# Altium schematic symbol library SCH Library.SCHLIB: 489 symbols (part 2 of 2)
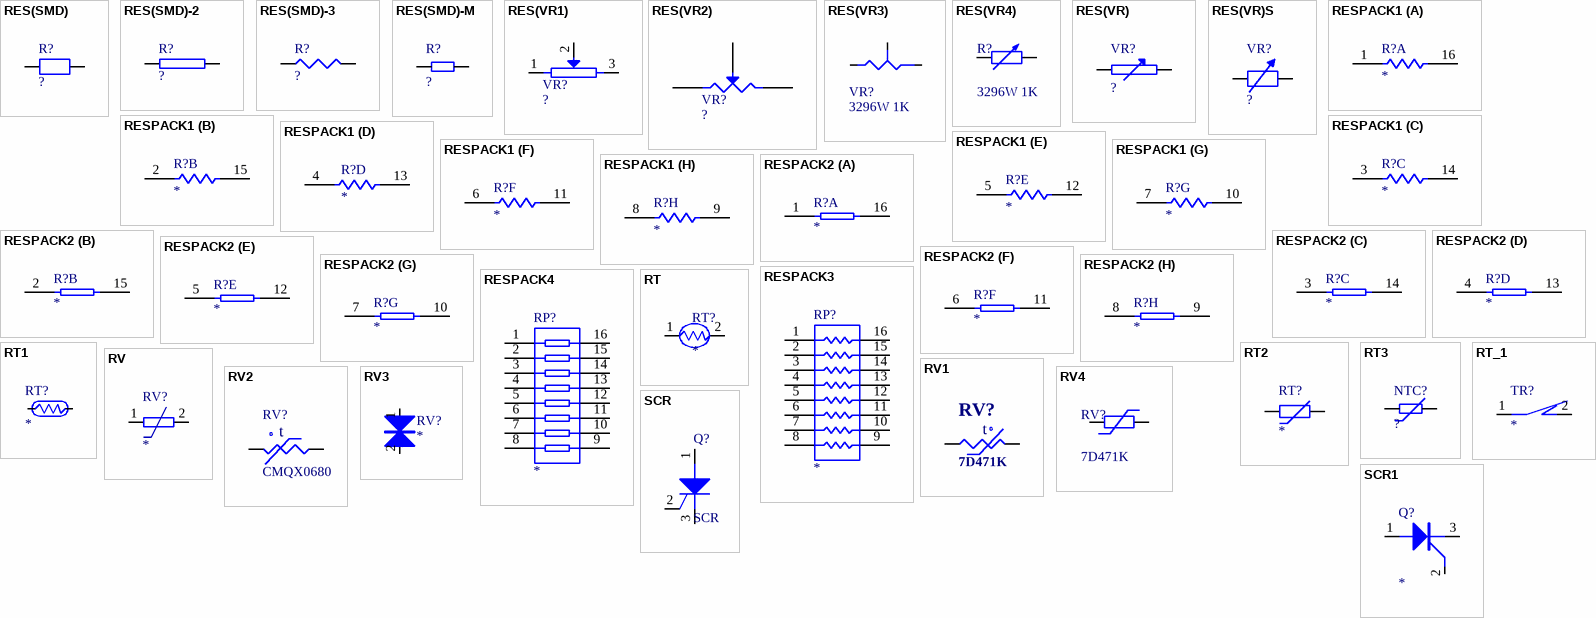
[diagram p18: symbols RES(SMD) to SCR1]

## RES(VR4)
designator R?, comment 3296W 1K
可调电阻; Set Position: 0.5; Published: 8-Jun-2000; LatestRevisionDate: 17-Jul-2002; LatestRevisionNote: Re-released for DXP Platform.; PackageReference: AXIAL-0.6; Publisher: Altium Limited
footprint AXIAL-0.6 (Variable Resistor; 2 Leads)
simulation model VRES (Variable Resistor)
signal-integrity model Res Adj
pins: 1, 2

## RES(VR)
designator VR?, comment ?
可调电阻
footprint R-VR3362
footprint R-VR3296
pins: 1, 2

## RES(VR)S
designator VR?, comment ?
可调电阻
footprint R-VR3362
footprint R-VR3296
pins: 1, 2

## RESPACK1
designator R?
电阻排
footprint DIP-16
part A pins: 1, 16
part B pins: 2, 15
part C pins: 3, 14
part D pins: 4, 13
part E pins: 5, 12
part F pins: 6, 11
part G pins: 7, 10
part H pins: 8, 9

## RESPACK2
designator R?
电阻排
footprint DIP-16
part A pins: 1, 16
part B pins: 2, 15
part C pins: 3, 14
part D pins: 4, 13
part E pins: 5, 12
part F pins: 6, 11
part G pins: 7, 10
part H pins: 8, 9

## RESPACK3
designator RP?
电阻排
footprint DIP-16
pins: 1, 2, 3, 4, 5, 6, 7, 8, 9, 10, 11, 12, 13, 14, 15, 16

## RESPACK4
designator RP?
电阻排
footprint DIP-16
pins: 1, 2, 3, 4, 5, 6, 7, 8, 9, 10, 11, 12, 13, 14, 15, 16

## RT
designator RT?
热敏电阻
pins: 1, 2

## RT1
designator RT?
热敏电阻
footprint RT-P5 (功率型NTC)
footprint RT-P7.5
footprint RT-P10
pins: 1, 2

## RT2
designator RT?
热敏电阻
footprint R-NTC9-5.0
footprint R-NTC11-5.0
footprint R-NTC13-7.5
footprint R-NTC15-7.5
footprint R-NTC20-10
pins: 1, 2

## RT3
designator NTC?, comment ?
贴片热敏电阻
footprint R-0805
footprint R-1206
footprint R-1210
footprint R-2010
footprint R-2512
footprint R-0402
footprint R-0603
pins: 1, 2

## RT_1
designator TR?
温控
pins: 1, 2

## RV
designator RV?
压敏电阻
pins: 1, 2

## RV1
designator RV?, comment 7D471K
压敏电阻
footprint R-RV5D
footprint R-RV7D
footprint R-RV7D-OS
footprint R-RV10D
pins: 1, 2
text: t

## RV2
designator RV?, comment CMQX0680
压敏电阻
footprint R-RV5D
footprint R-RV7D
footprint R-RV7D-OS
footprint R-RV10D
footprint R-RVFL-3C (CMQX0680-3C)
pins: 1, 2
text: t

## RV3
designator RV?
压敏电阻
pins: 1, 2

## RV4
designator RV?, comment 7D471K
压敏电阻; Published: 24-Mar-1999; LatestRevisionDate: 04-Mar-2005; LatestRevisionNote: PCB Footprint replaced.; PackageReference: 6-0805; Publisher: Altium Limited; Price: 0.1; Value: 7D471K
footprint MOV-P5.0 (压敏电阻  7D471K P=5MM)
footprint MOV-P5-W
footprint MOV-P7.5 (压敏电阻  7D471K P=7.5MM)
footprint MOV-P10 (压敏电阻  7D471K P=7.5MM)
pins: 1, 2

## SCR
designator Q?
可控硅; Published: 8-Jun-2000; LatestRevisionDate: 17-Jul-2002; LatestRevisionNote: Re-released for DXP Platform.; PackageReference: TO-220-AB; Publisher: Altium Limited; Code_JEDEC: TO-220-AB
simulation model SCR (Spice Subcircuit)
footprint TO-92A (TO, Flat Index; 3 In-Line, Axial Leads; Body Dia. 4.5mm; Leads 0.51 x 0.48 mm (max))
footprint TO-92 (TO, Flat Index; 3 In-Line, Axial Leads; Body Dia. 4.5mm; Leads 0.51 x 0.48 mm (max))
pins: 1 A, 2 G, 3 K

## SCR1
designator Q?
可控硅
footprint Q-TO-92-BT169
pins: 1 A, 2 G, 3 K

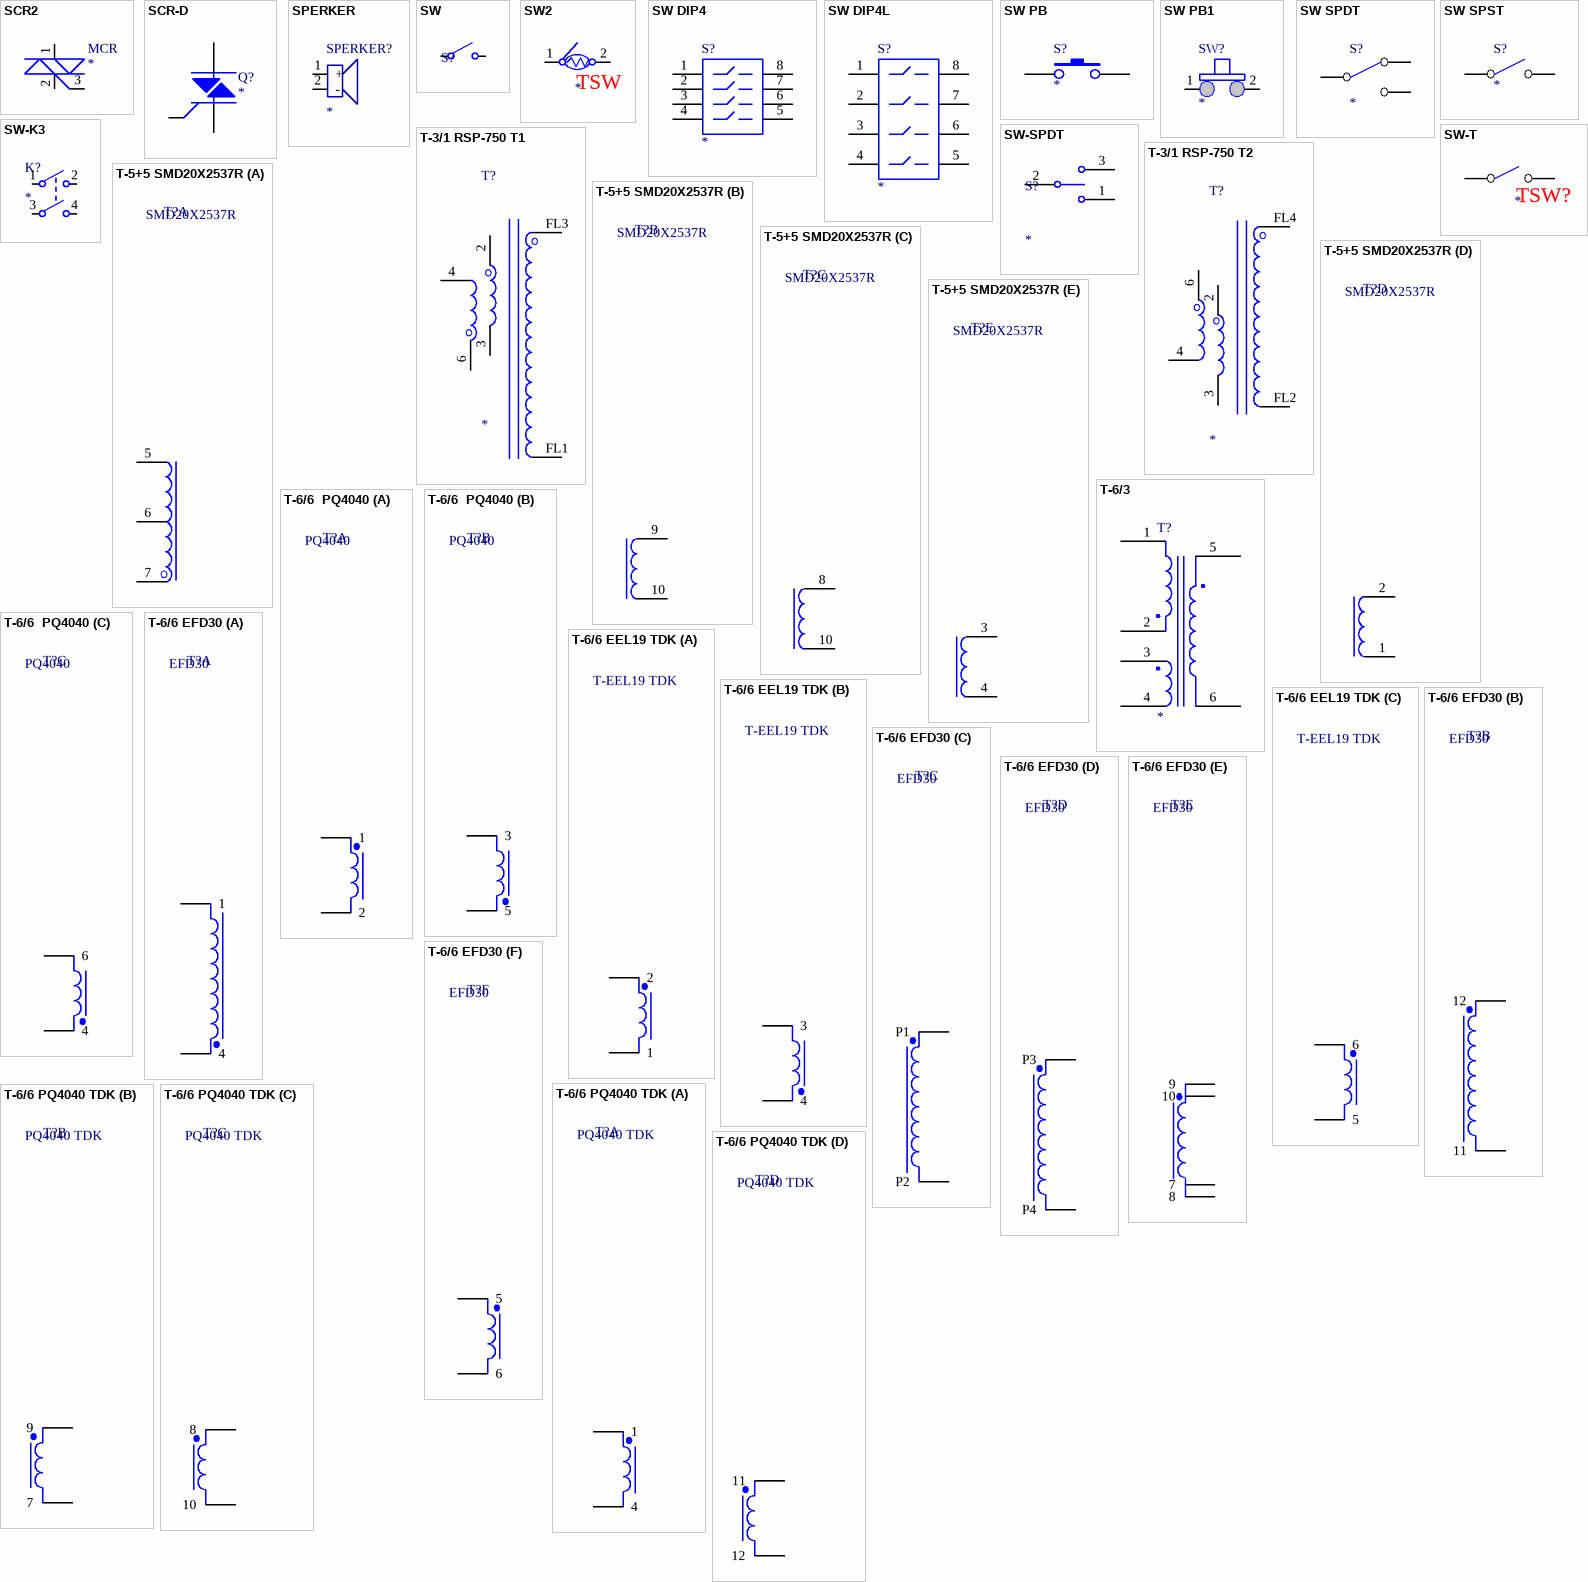
[diagram p11: symbols SCR2 to T-6/6 PQ4040 TDK]

## SCR2
designator MCR
可控硅
pins: 1, 2, 3

## SCR-D
designator Q?
双向可控硅; 型号: BTA16，BT136
footprint Q-TO-220FM
footprint Q-SOT-223/P2.3
pins: 1, 2, 3

## SPERKER
designator SPERKER?
扬声器
pins: 1 +, 2 -

## SW
designator S?  (value not drawn)
开关; Published: 24-Mar-1999; LatestRevisionDate: 17-Dec-2003; LatestRevisionNote: Schematic revised, PCB Footprint replaced.; DatasheetDocument: 05-Dec-2000; PackageReference: TL36WW15050; Publisher: Altium Limited; ComponentLink1Description: Manufacturer Link; ComponentLink1URL: http://www.apem.com
pins: 1, 2

## SW2
designator TSW
温控开关
footprint EC2.54-2
footprint ec2.54-2
pins: 1, 2

## SW DIP4
designator S?
4档开关
footprint DIP-8
pins: 1, 2, 3, 4, 5, 6, 7, 8

## SW DIP4L
designator S?
4档开关长
footprint DIP-8
pins: 1, 2, 3, 4, 5, 6, 7, 8

## SW PB
designator S?
点动
pins: 1, 2

## SW PB1
designator SW?
点动
pins: 1, 2

## SW SPDT
designator S?
单刀双掷
pins: 1 COMMON, 2 NC, 3 NO

## SW SPST
designator S?
单刀单掷
pins: 1 COMMON, 2 NO

## SW-K3
designator K?
双刀开关
pins: 1, 2, 3 1, 4 2

## SW-SPDT
designator S?
拨动开关; Published: 24-Mar-1999; LatestRevisionDate: 17-Dec-2003; LatestRevisionNote: Schematic revised, PCB Footprint replaced.; DatasheetDocument: 05-Dec-2000; PackageReference: TL36WW15050; Publisher: Altium Limited; ComponentLink1Description: Manufacturer Link; ComponentLink1URL: http://www.apem.com
footprint TL36WW15050 (SPDT Subminiature Toggle Switch, Right Angle Mounting, Vertical Actuation)
pins: 1, 2, 3

## SW-T
designator TSW?
温控开关
footprint Q-TO-220AB-M (两位)
footprint EC2.54-2.1
footprint ec2.54-2
pins: 1, 2

## T-3/1 RSP-750 T1
designator T?
正激变压器
pins: 2, 3, 4, 6, FL1, FL3

## T-3/1 RSP-750 T2
designator T?
正激变压器
pins: 2, 3, 4, 6, FL2, FL4

## T-5+5 SMD20X2537R
designator T?, comment SMD20X2537R
LLC
footprint T-T3 (高频变压器)
part A pins: 5, 6, 7
part B pins: 9, 10
part C pins: 8, 10
part D pins: 1, 2
part E pins: 3, 4
2 alternate drawings of the same symbol

## T-6/3
designator T?
反激变压器
pins: 1, 2, 3, 4, 5, 6

## T-6/6  PQ4040
designator T?, comment PQ4040
正激
footprint T-PQ3535-CUS600M-LLC TDK
part A pins: 1, 2
part B pins: 3, 5
part C pins: 4, 6
2 alternate drawings of the same symbol

## T-6/6 EEL19 TDK
designator T?, comment T-EEL19 TDK
正激
footprint T-EEL19-CUS600M TDK
part A pins: 1, 2
part B pins: 3, 4
part C pins: 5, 6
2 alternate drawings of the same symbol

## T-6/6 EFD30
designator T?, comment EFD30
LLC
part A pins: 1, 4
part B pins: 11, 12
part C pins: P1, P2
part D pins: P3, P4
part E pins: 7, 8, 9, 10
part F pins: 5, 6
2 alternate drawings of the same symbol

## T-6/6 PQ4040 TDK
designator T?, comment PQ4040 TDK
LLC
footprint T-PQ3535-CUS600M-LLC TDK
part A pins: 1, 4
part B pins: 7, 9
part C pins: 8, 10
part D pins: 11, 12
2 alternate drawings of the same symbol

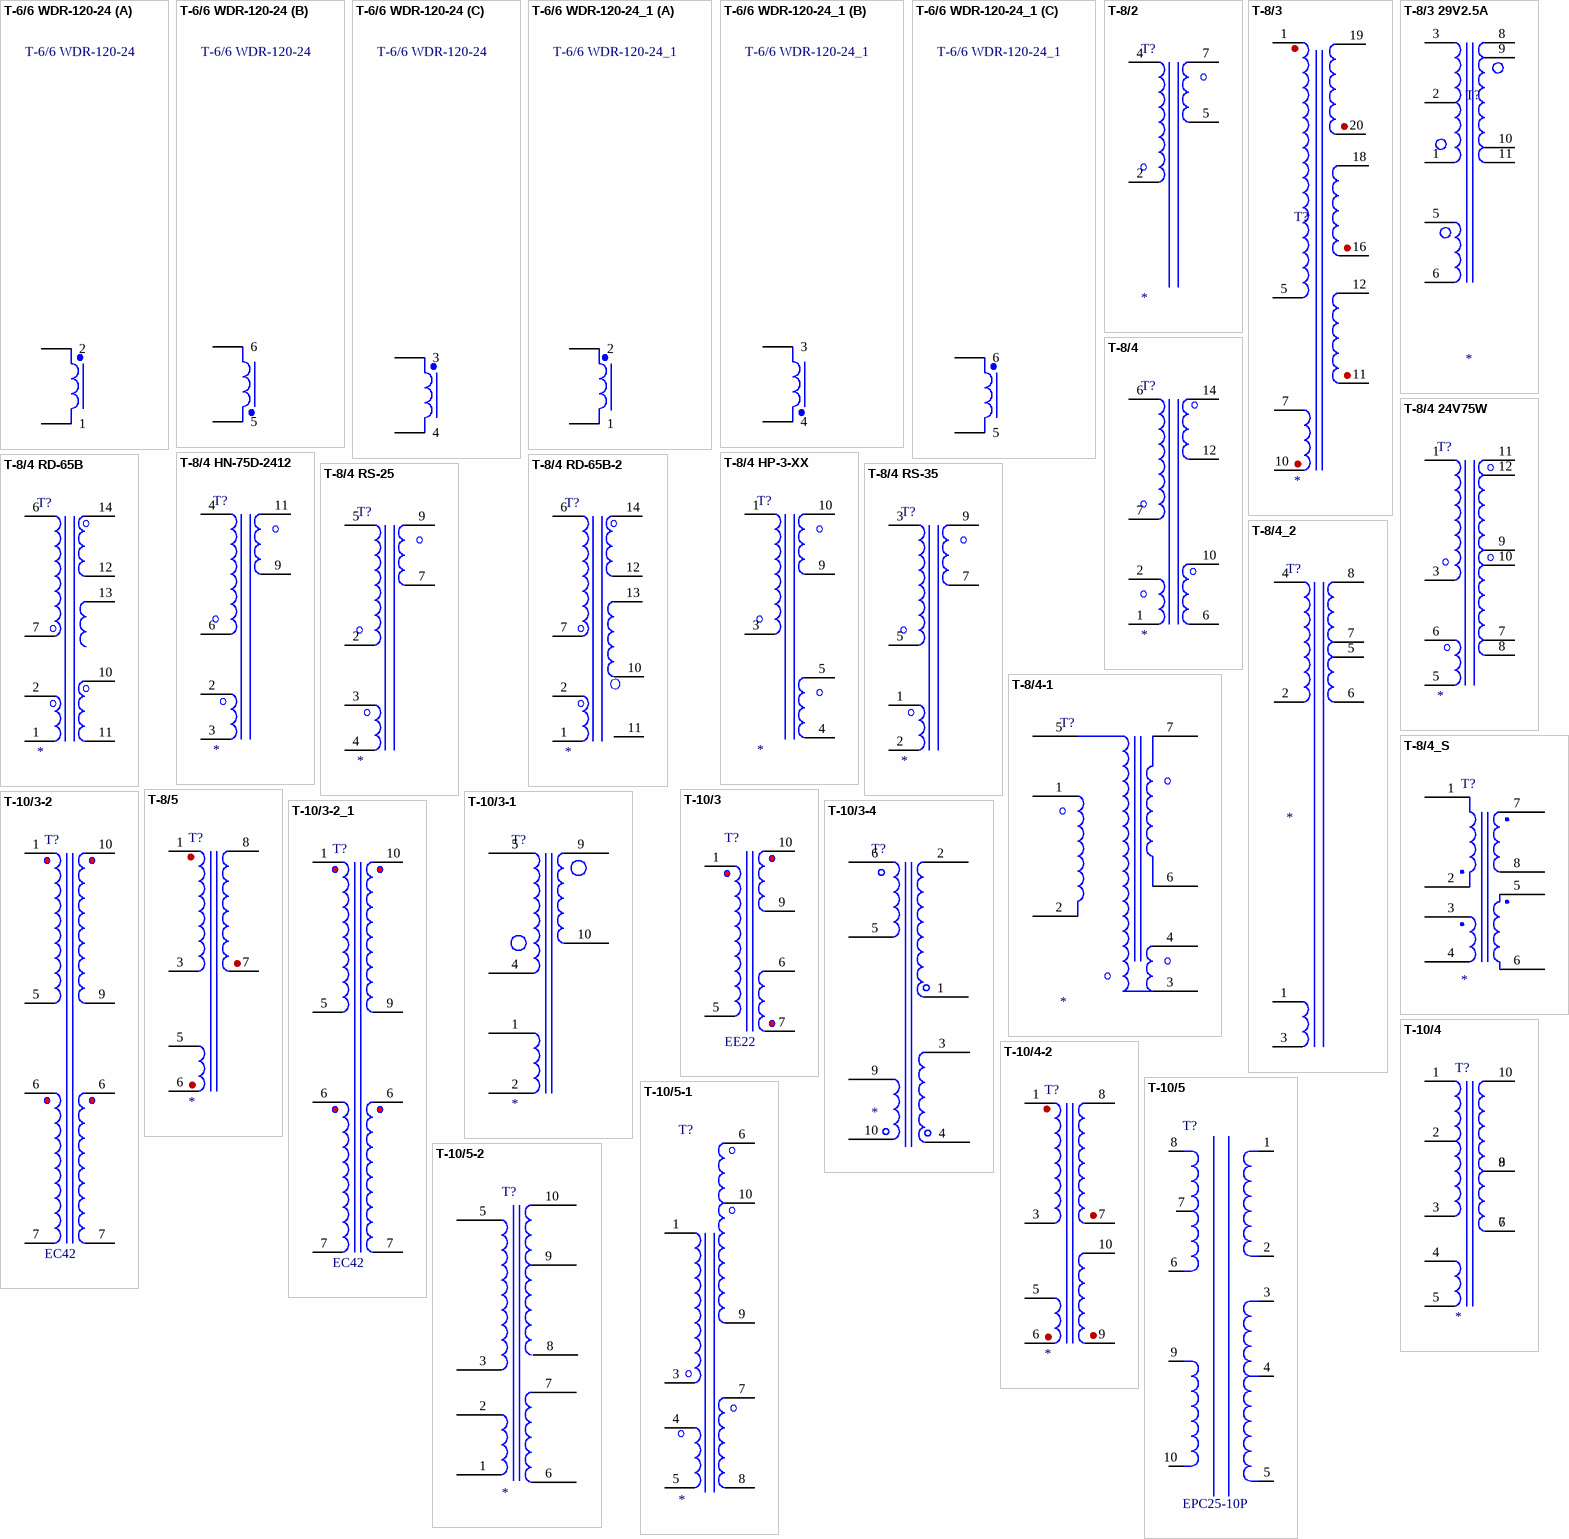
[diagram p12: symbols T-6/6 WDR-120-24 to T-10/5-2]

## T-6/6 WDR-120-24
designator T?
正激
part A pins: 1, 2
part B pins: 5, 6
part C pins: 3, 4
2 alternate drawings of the same symbol

## T-6/6 WDR-120-24_1
designator T?
正激
part A pins: 1, 2
part B pins: 3, 4
part C pins: 5, 6
2 alternate drawings of the same symbol

## T-8/2
designator T?
反激变压器
pins: 2, 4, 5, 7

## T-8/3
designator T?
反激变压器
pins: 1, 5, 7, 10, 11, 12, 16, 18, 19, 20

## T-8/3 29V2.5A
designator T?
反激变压器
pins: 1, 2, 3, 5, 6, 8, 9, 10, 11

## T-8/4
designator T?
反激变压器
pins: 1, 2, 6, 6, 7, 10, 12, 14

## T-8/4 24V75W
designator T?
反激变压器
pins: 1, 3, 5, 6, 7, 8, 9, 10, 11, 12

## T-8/4 HN-75D-2412
designator T?
反激变压器
pins: 2, 3, 4, 6, 9, 11

## T-8/4 HP-3-XX
designator T?
反激变压器
pins: 1, 3, 4, 5, 9, 10

## T-8/4 RD-65B
designator T?
反激变压器
pins: 1, 2, 6, 7, 10, 11, 12, 13, 14

## T-8/4 RD-65B-2
designator T?
反激变压器
pins: 1, 2, 6, 7, 10, 11, 12, 13, 14

## T-8/4 RS-25
designator T?
反激变压器
pins: 2, 3, 4, 5, 7, 9

## T-8/4 RS-35
designator T?
反激变压器
pins: 1, 2, 3, 5, 7, 9

## T-8/4-1
designator T?
正激
pins: 1, 2, 3, 4, 5, 6, 7

## T-8/4_2
designator T?
反激变压器
pins: 1, 2, 3, 4, 5, 6, 7, 8

## T-8/4_S
designator T?
反激变压器
footprint T-EI22
footprint T-EI19
pins: 1, 2, 3, 4, 5, 6, 7, 8

## T-8/5
designator T?
反激变压器
pins: 1, 3, 5, 6, 7, 8

## T-10/3
designator T?, comment EE22
驱动
footprint T-EI22
pins: 1, 5, 6, 7, 9, 10

## T-10/3-1
designator T?
反激变压器
pins: 1, 2, 4, 5, 9, 10

## T-10/3-2
designator T?, comment EC42
双管正激
footprint T-EC40/35-12/22.5/25.4
pins: 1, 5, 6, 6, 7, 7, 9, 10

## T-10/3-2_1
designator T?, comment EC42
双管正激
footprint T-EC40/35-12/22.5/25.4
pins: 1, 5, 6, 6, 7, 7, 9, 10

## T-10/3-4
designator T?
反激变压器
pins: 1, 2, 3, 4, 5, 6, 9, 10

## T-10/4
designator T?
反激变压器
pins: 1, 2, 3, 4, 5, 6, 7, 8, 9, 10

## T-10/4-2
designator T?
反激变压器
footprint T-EC28/34W-12/30
pins: 1, 3, 5, 6, 7, 8, 9, 10

## T-10/5
designator T?, comment EPC25-10P
反激变压器
pins: 1, 2, 3, 4, 5, 6, 7, 8, 9, 10
2 alternate drawings of the same symbol

## T-10/5-1
designator T?
反激变压器
pins: 1, 3, 4, 5, 6, 7, 8, 9, 10

## T-10/5-2
designator T?
反激变压器
pins: 1, 2, 3, 5, 6, 7, 8, 9, 10

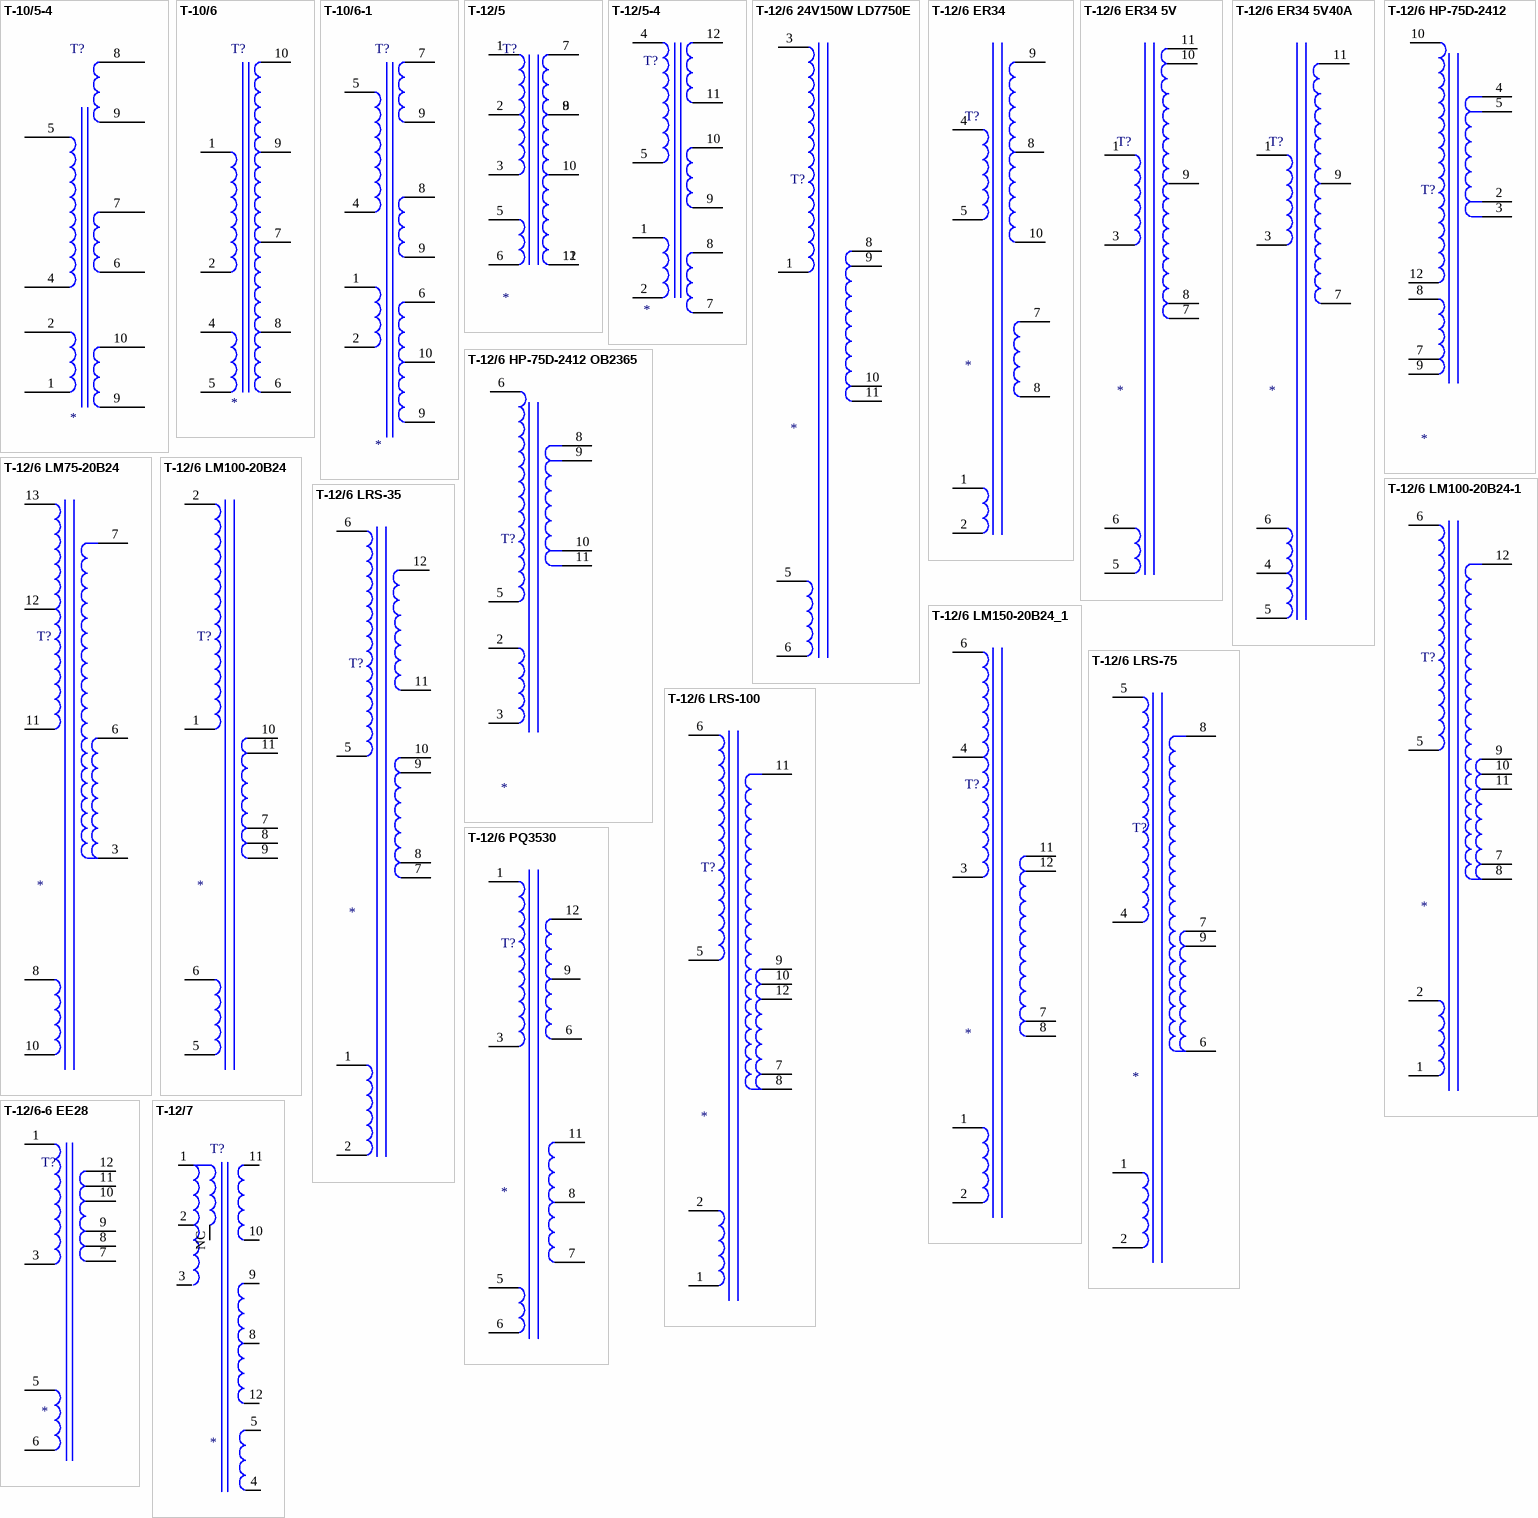
[diagram p13: symbols T-10/5-4 to T-12/7]

## T-10/5-4
designator T?
反激变压器
pins: 1, 2, 4, 5, 6, 7, 8, 9, 9, 10

## T-10/6
designator T?
反激变压器
pins: 1, 2, 4, 5, 6, 7, 8, 9, 10

## T-10/6-1
designator T?
反激变压器
pins: 1, 2, 4, 5, 6, 7, 8, 9, 9, 9, 10

## T-12/5
designator T?
反激变压器
pins: 1, 2, 3, 5, 6, 7, 8, 9, 10, 11, 12

## T-12/5-4
designator T?
反激变压器
pins: 1, 2, 4, 5, 7, 8, 9, 10, 11, 12

## T-12/6 24V150W LD7750E
designator T?
24V150W LD7750E
pins: 1, 3, 5, 6, 8, 9, 10, 11

## T-12/6 ER34
designator T?
LLC
pins: 1, 2, 4, 5, 7, 8, 8, 9, 10

## T-12/6 ER34 5V
designator T?
LLC
pins: 1, 3, 5, 6 5, 7, 8, 9, 10, 11

## T-12/6 ER34 5V40A
designator T?
LLC
pins: 1, 3, 4, 5, 6 5, 7, 9, 11

## T-12/6 HP-75D-2412
designator T?
HP-75D-2412
pins: 2, 3, 4, 5, 7, 8, 9, 10, 12

## T-12/6 HP-75D-2412 OB2365
designator T?
HP-75D-2412
pins: 2, 3, 5, 6, 8, 9, 10, 11

## T-12/6 LM75-20B24
designator T?
LM75-20B24
pins: 3, 6, 7, 8, 10, 11, 12, 13

## T-12/6 LM100-20B24
designator T?
LM100-20B24
pins: 1, 2, 5, 6, 7, 8, 9, 10, 11

## T-12/6 LM100-20B24-1
designator T?
LM100-20B24-1
pins: 1, 2, 5, 6, 7, 8, 9, 10, 11, 12

## T-12/6 LM150-20B24_1
designator T?
LM150-20B24
pins: 1, 2, 3, 4, 6, 7, 8, 11, 12

## T-12/6 LRS-35
designator T?
LRS-35
pins: 1, 2, 5, 6, 7, 8, 9, 10, 11, 12

## T-12/6 LRS-75
designator T?
LRS-75
footprint MW LRS-75
pins: 1, 2, 4, 5, 6, 7, 8, 9

## T-12/6 LRS-100
designator T?
LRS-100
footprint MW LRS-100
pins: 1, 2, 5, 6, 7, 8, 9, 10, 11, 12

## T-12/6 PQ3530
designator T?
LLC
pins: 1, 3, 5, 6, 6, 7, 8, 9, 11, 12

## T-12/6-6 EE28
designator T?
反激
pins: 1, 3, 5, 6, 7, 8, 9, 10, 11, 12

## T-12/7
designator T?
反激变压器
pins: 1, 2, 3, 4, 5, 8, 9, 10, 11, 12, NC

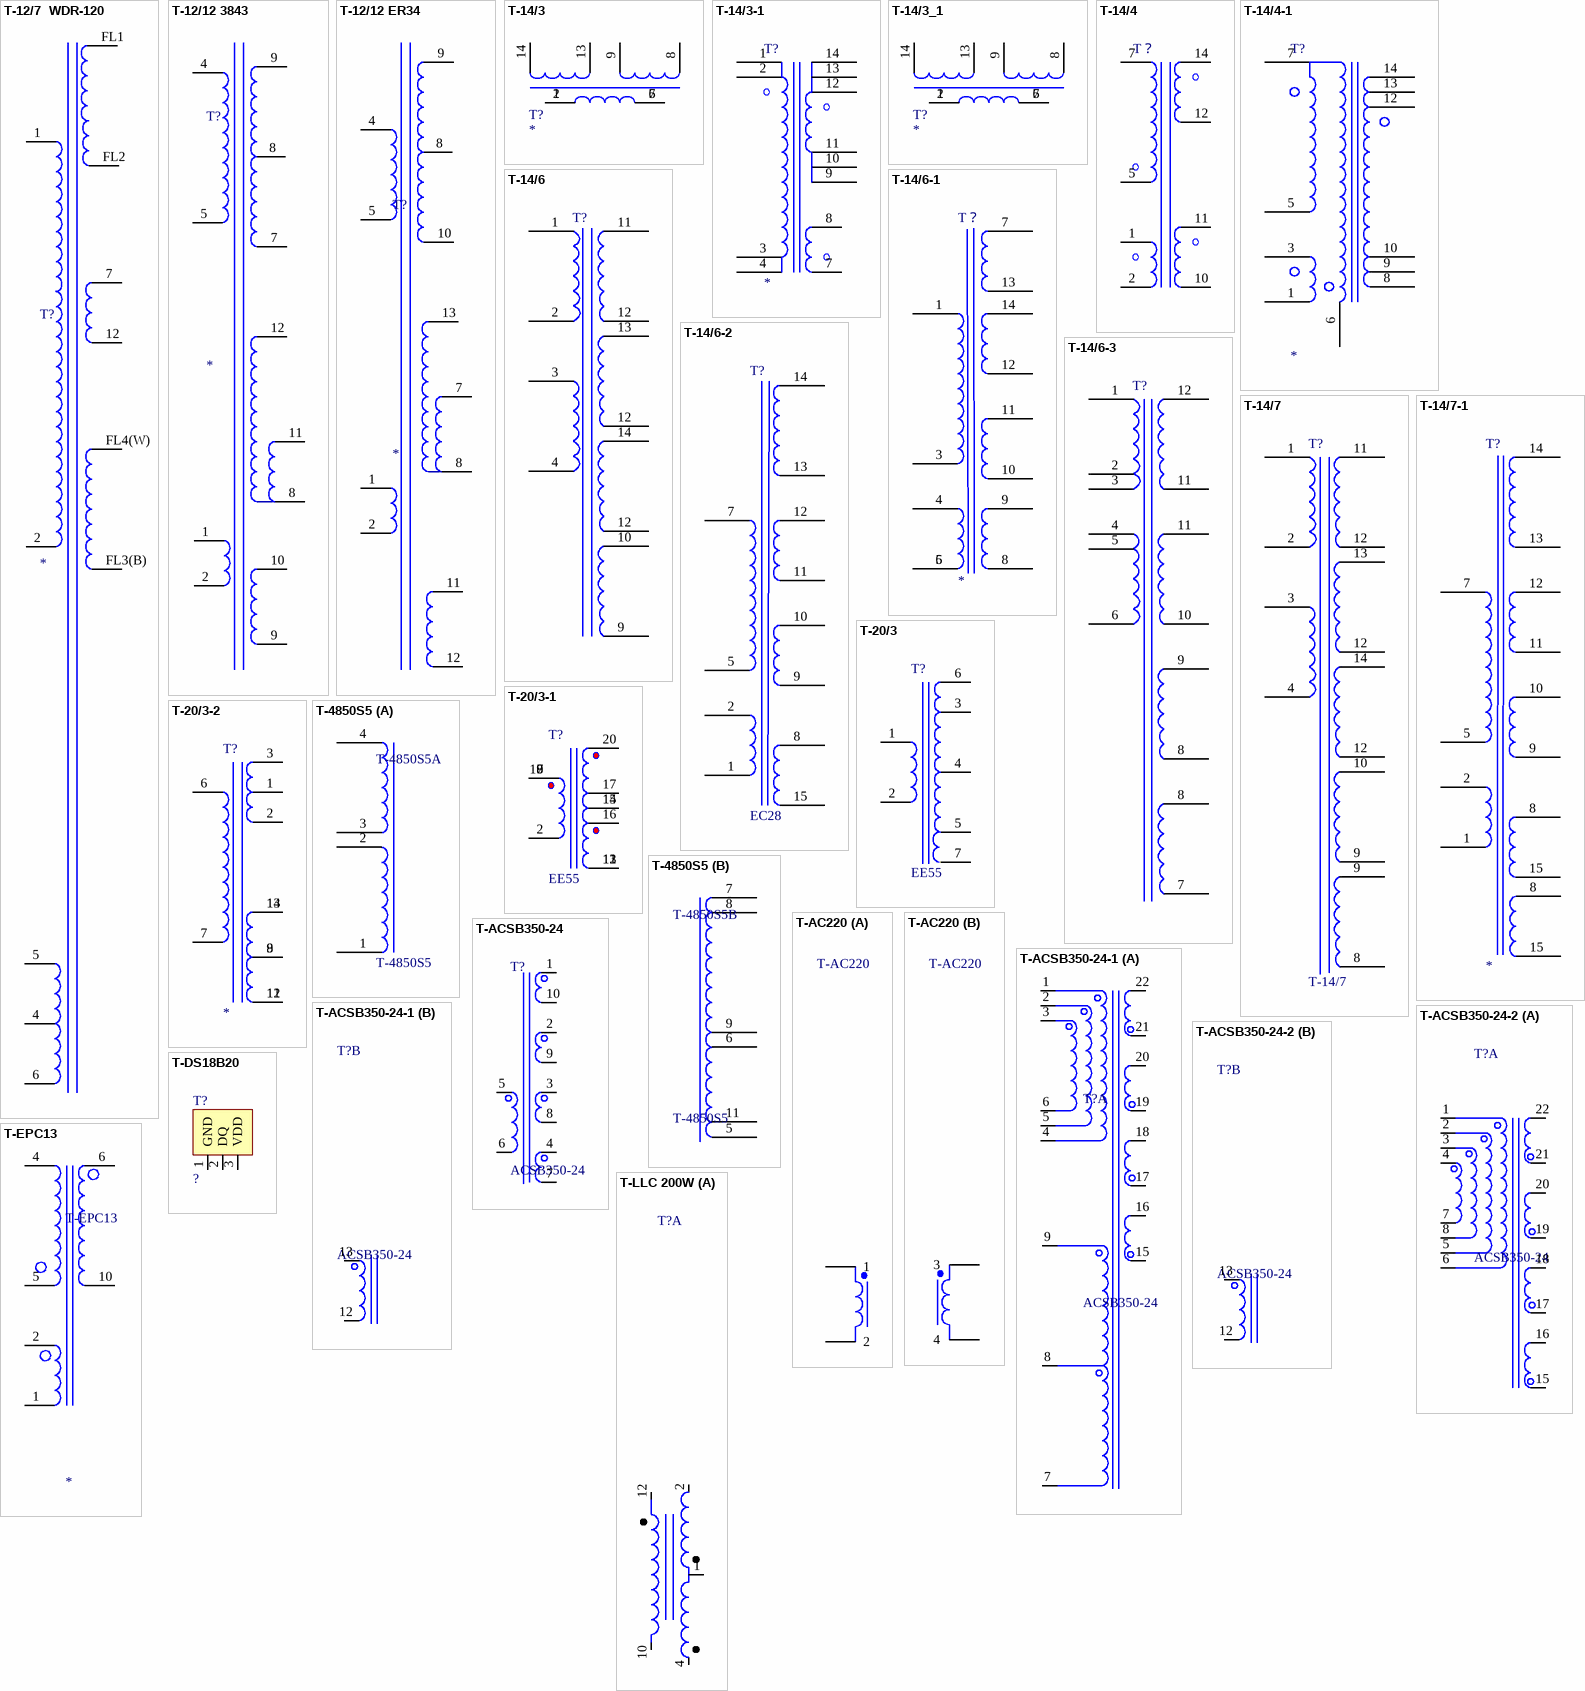
[diagram p14: symbols T-12/7  WDR-120 to T-LLC 200W]

## T-12/7  WDR-120
designator T?
WDR-120
footprint PQ3220/5+2
pins: 1, 2, 4, 5, 6, 7, 12, FL1, FL2, FL3(B), FL4(W)

## T-12/12 3843
designator T?
LLC
pins: 1, 2, 4, 5, 7, 8, 8, 9, 9, 10, 11, 12

## T-12/12 ER34
designator T?
LLC
pins: 1, 2, 4, 5, 7, 8, 8, 9, 10, 11, 12, 13

## T-14/3
designator T?
半桥
pins: 1, 2, 5, 6, 7, 8, 9, 13, 14

## T-14/3-1
designator T?
反激变压器
pins: 1, 2, 3, 4, 7, 8, 9, 10, 11, 12, 13, 14

## T-14/3_1
designator T?
半桥
pins: 1, 2, 5, 6, 7, 8, 9, 13, 14

## T-14/4
designator T？
反激变压器
pins: 1, 2, 5, 7, 10, 11, 12, 14

## T-14/4-1
designator T?
正激
pins: 1, 3, 5, 6, 7, 8, 9, 10, 12, 13, 14

## T-14/6
designator T?
反激变压器
pins: 1, 2, 3, 4, 9, 10, 11, 12, 12, 12, 13, 14

## T-14/6-1
designator T？
反激变压器
pins: 1, 3, 4, 5, 6, 7, 8, 9, 10, 11, 12, 13, 14

## T-14/6-2
designator T?, comment EC28
反激变压器
footprint ei33 - 15
pins: 1, 2, 5, 7, 8, 9, 10, 11, 12, 13, 14, 15

## T-14/6-3
designator T?
反激变压器
pins: 1, 2, 3, 4, 5, 6, 7, 8, 8, 9, 10, 11, 11, 12

## T-14/7
designator T?
反激变压器
pins: 1, 2, 3, 4, 8, 9, 9, 10, 11, 12, 12, 12, 13, 14

## T-14/7-1
designator T?
反激变压器
pins: 1, 2, 5, 7, 8, 8, 9, 10, 11, 12, 13, 14, 15, 15

## T-20/3
designator T?, comment EE55
半桥
pins: 1, 2, 3, 4, 5, 6, 7
2 alternate drawings of the same symbol

## T-20/3-1
designator T?, comment EE55
半桥
footprint T-EE55
pins: 2, 3, 4, 5, 7, 8, 9, 10, 11, 12, 13, 14, 15, 16, 17, 18, 19, 20

## T-20/3-2
designator T?
半桥
pins: 1, 2, 3, 6, 7, 8, 9, 11, 12, 13, 14

## T-4850S5
designator T-4850S5
LLC变压器
footprint T-T101 (高频变压器)
part A pins: 1, 2, 3, 4
part B pins: 5, 6, 7, 8, 9, 11

## T-AC220
designator T?
正激
part A pins: 1, 2
part B pins: 3, 4
2 alternate drawings of the same symbol

## T-ACSB350-24
designator T?, comment ACSB350-24
驱动
pins: 1, 2, 3, 4, 5, 6, 7, 8, 9, 10
2 alternate drawings of the same symbol

## T-ACSB350-24-1
designator T?, comment ACSB350-24
主变压器
part A pins: 1, 2, 3, 4, 5, 6, 7, 8, 9, 15, 16, 17, 18, 19, 20, 21, 22
part B pins: 12, 13
2 alternate drawings of the same symbol

## T-ACSB350-24-2
designator T?, comment ACSB350-24
主变压器
part A pins: 1, 2, 3, 4, 5, 6, 7, 8, 15, 16, 17, 18, 19, 20, 21, 22
part B pins: 12, 13
2 alternate drawings of the same symbol

## T-DS18B20
designator T?, comment ?
温度传感器
pins: 1 GND, 2 DQ, 3 VDD

## T-EPC13
designator T-EPC13
反激变压器
pins: 1, 2, 4, 5, 6, 10

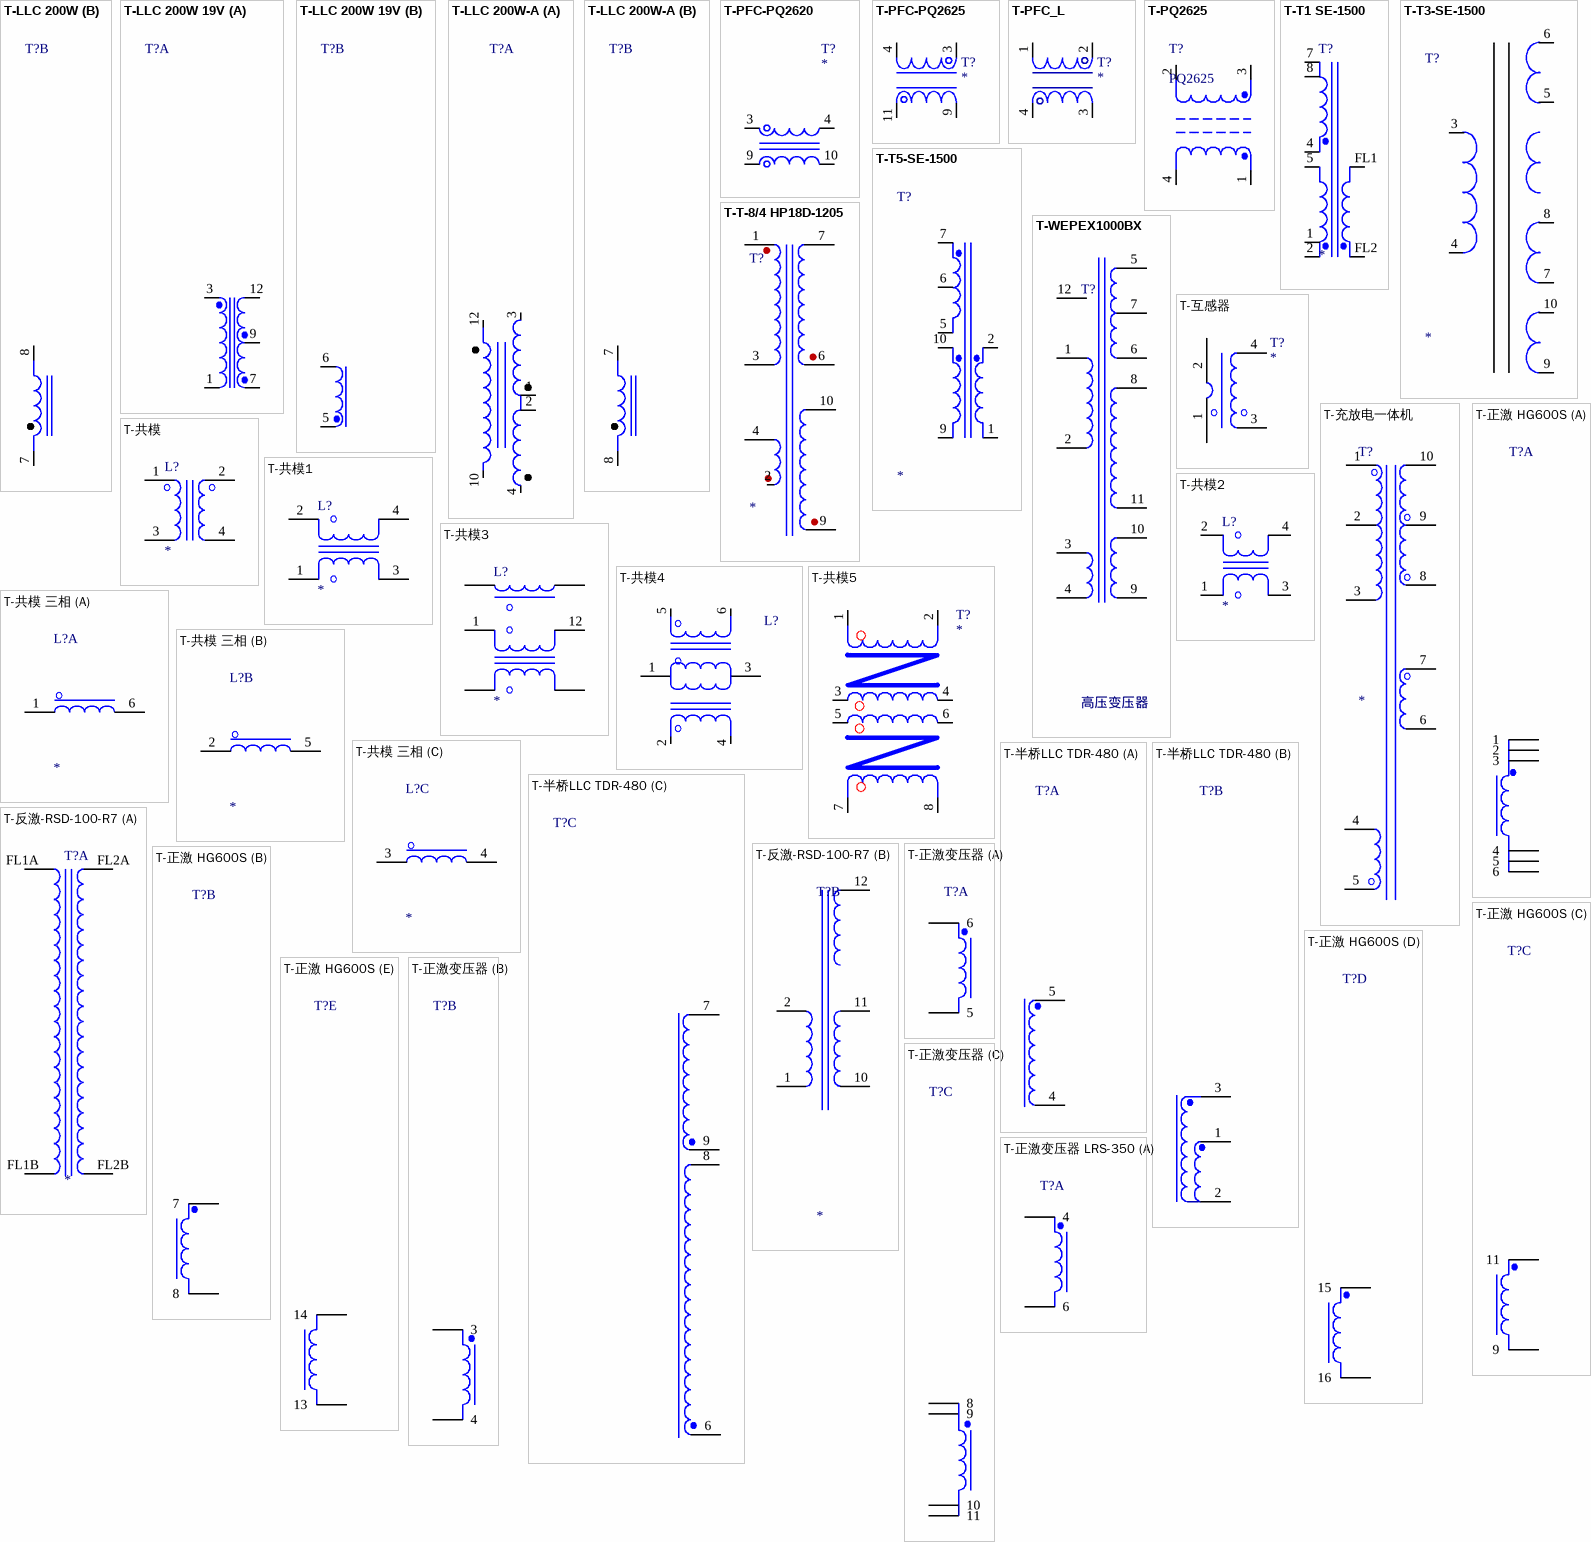
[diagram p15: symbols T-LLC 200W to T-正激变压器 LRS-350]

## T-LLC 200W
designator T?  (value not drawn)
LLC
part A pins: 1, 2, 4, 10, 12
part B pins: 7, 8
2 alternate drawings of the same symbol

## T-LLC 200W 19V
designator T?
T-LLC 200W 19V
footprint PQ2625/6+6 200W llc
part A pins: 1, 3, 7, 9, 12
part B pins: 5, 6
2 alternate drawings of the same symbol

## T-LLC 200W-A
designator T?  (value not drawn)
LLC
part A pins: 1, 2, 3, 4, 10, 12
part B pins: 7, 8
2 alternate drawings of the same symbol

## T-PFC-PQ2620
designator T?
PFC电感
pins: 3, 4, 9, 10

## T-PFC-PQ2625
designator T?
PFC电感
pins: 3, 4, 9, 11

## T-PFC_L
designator T?
PFC电感
pins: 1, 2, 3, 4

## T-PQ2625
designator T?, comment PQ2625
电感; Price: 1.22
footprint TR-EE16 (18X16X14,卧式EE16)
pins: 1 Pri-, 2 Pri-, 3 Pri-, 4 Pri-

## T-T1 SE-1500
designator T?
正激
footprint T-T1  SE-1500 MW
pins: 1, 2, 4, 5, 7, 8, FL1, FL2

## T-T3-SE-1500
designator T?
驱动变压器
pins: 3, 4, 5, 6, 7, 8, 9, 10

## T-T5-SE-1500
designator T?
辅助电源
pins: 1, 2, 5, 6, 7, 9, 10

## T-T-8/4 HP18D-1205
designator T?
反激变压器
pins: 1, 2, 3, 4, 6, 7, 9, 10

## T-WEPEX1000BX
designator T?, comment 高压变压器
微波变压器
pins: 1, 2, 3, 4, 5, 6, 7, 8, 9, 10, 11, 12

## T-互感器
designator T?
感器
pins: 1, 2, 3, 4

## T-充放电一体机
designator T?
反激变压器
footprint T1-充放电一体机
pins: 1, 2, 3, 4, 5, 6, 7, 8, 9, 10

## T-共模
designator L?
共模电感
footprint T-UF9.8
footprint T-UF10.5
footprint T-UF16
pins: 1, 2, 3, 4

## T-共模1
designator L?
共模电感
footprint T-UF9.8
footprint T-UF10.5
footprint T-UF16
pins: 1, 2, 3, 4

## T-共模2
designator L?
共模电感
footprint T-UF9.8
footprint T-UF10.5
footprint T-UF16
pins: 1, 2, 3, 4

## T-共模3
designator L?
共模3组
pins: 1, 2, 3, 4, 5, 6, 7, 8, 9, 10, 11, 12, 13, 14

## T-共模4
designator L?  (value not drawn)
共模3组
pins: 1, 2, 3, 4, 5, 6

## T-共模5
designator T?
共模4组
pins: 1, 2, 3, 4, 5, 6, 7, 8

## T-共模 三相
designator L?
共模三相
part A pins: 1, 6
part B pins: 2, 5
part C pins: 3, 4

## T-半桥LLC TDR-480
designator T?
T-半桥LLC TDR-480
part A pins: 4, 5
part B pins: 1, 2, 3
part C pins: 6, 7, 8, 9
2 alternate drawings of the same symbol

## T-反激-RSD-100-R7
designator T?
反激变压器
footprint PQ2620/6+6 MW
part A pins: FL1A, FL1B, FL2A, FL2B
part B pins: 1, 2, 10, 11, 12

## T-正激 HG600S
designator T?  (value not drawn)
正激
part A pins: 1, 2, 3, 4, 5, 6
part B pins: 7, 8
part C pins: 9, 11
part D pins: 15, 16
part E pins: 13, 14
2 alternate drawings of the same symbol

## T-正激变压器
designator T?  (value not drawn)
正激变压器
part A pins: 2 hidden to 2, 5, 6
part B pins: 3, 4
part C pins: 8, 9, 10, 11
2 alternate drawings of the same symbol

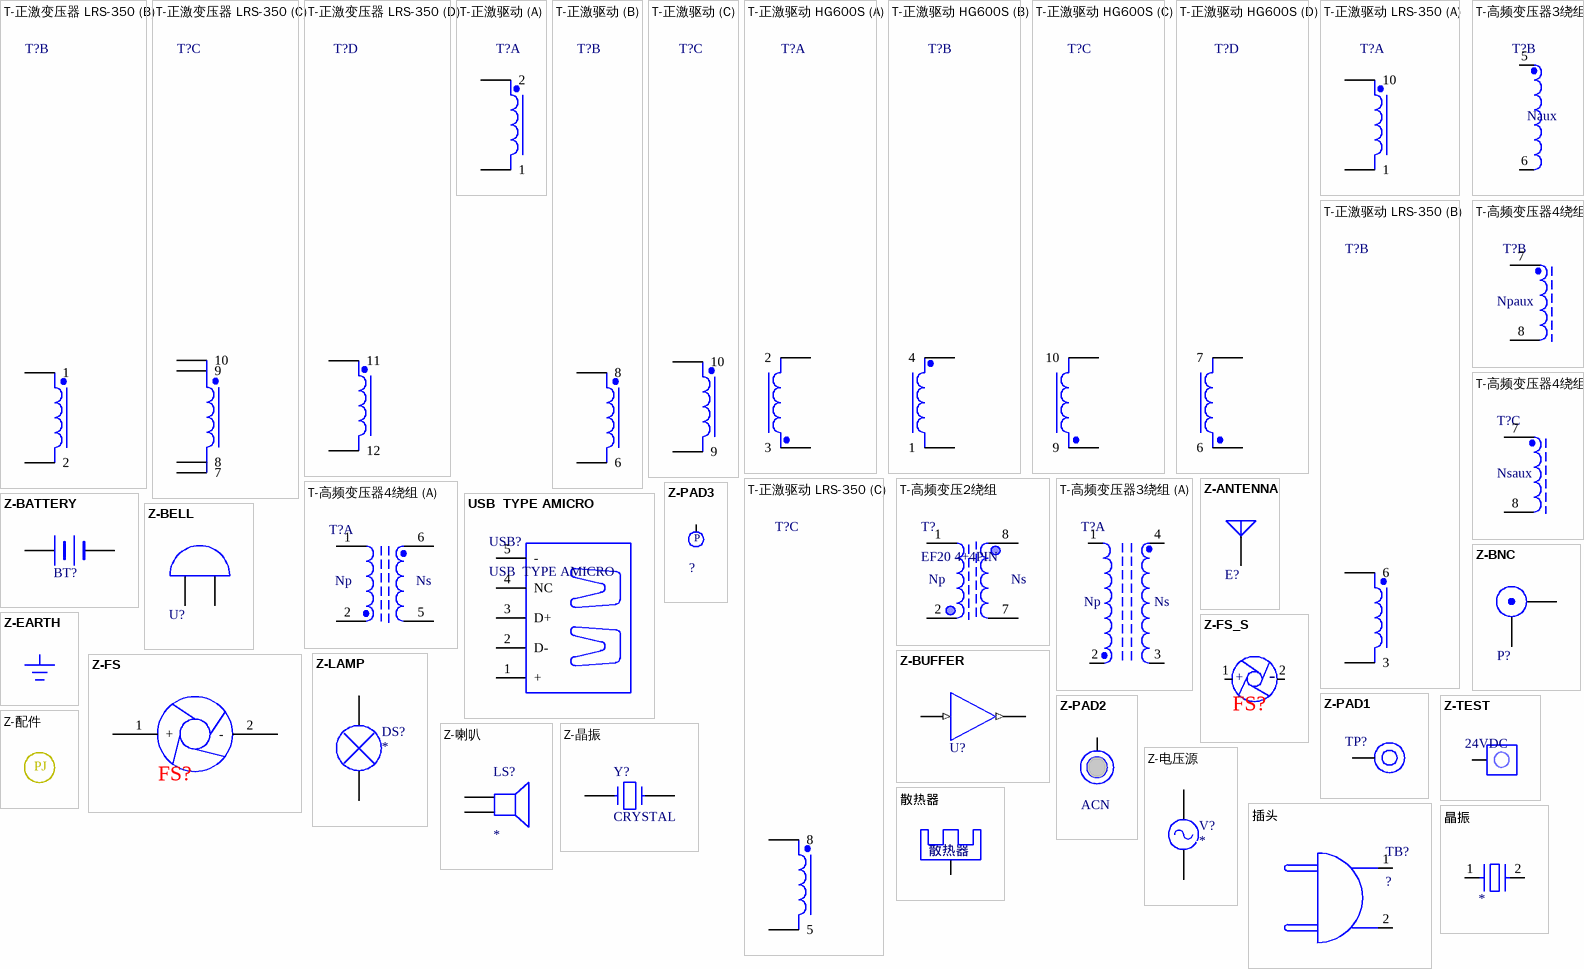
[diagram p16: symbols T-正激变压器 LRS-350 to 晶振]

## T-正激变压器 LRS-350
designator T?
正激变压器
part A pins: 4, 6
part B pins: 1, 2
part C pins: 7, 8, 9, 10
part D pins: 11, 12
2 alternate drawings of the same symbol

## T-正激驱动
designator T?  (value not drawn)
正激驱动
part A pins: 1, 2
part B pins: 6, 8
part C pins: 9, 10
2 alternate drawings of the same symbol

## T-正激驱动 HG600S
designator T?  (value not drawn)
正激驱动
part A pins: 2, 3
part B pins: 1, 4
part C pins: 9, 10
part D pins: 6, 7
2 alternate drawings of the same symbol

## T-正激驱动 LRS-350
designator T?  (value not drawn)
正激驱动
part A pins: 1, 10
part B pins: 3, 6
part C pins: 5, 8
2 alternate drawings of the same symbol

## T-高频变压2绕组
designator T?, comment EF20 4+4PIN
2个绕组
footprint EFD20-8 (EFD20卧式变压器)
pins: 1 Pri-, 2 Pri-, 7 Pri-, 8 Pri-
text: Np; Ns

## T-高频变压器3绕组
designator T?
高频变压器3绕组
part A pins: 1 Pri-, 2 Pri-, 3 Sec, 4 Sec
part B pins: 5 Sec, 6 Sec
part A text: Np; Ns
part B text: Naux

## T-高频变压器4绕组
designator T?, comment EFD25 6+6PIN  (value not drawn)
高频变压器4绕组
footprint EFD20-8 (EFD20卧式变压器)
part A pins: 1 Pri-, 2 Pri-, 5 Sec, 6 Sec
part B pins: 7 Pri-, 8 Pri-
part C pins: 7 Pri-, 8 Pri-
part A text: Np; Ns
part B text: Npaux
part C text: Nsaux

## USB  TYPE AMICRO
designator USB?
USB接口
footprint USB-type A
footprint USB-MC-SMT
footprint USB-type A
footprint USB-type B
pins: 1 +, 2 D-, 3 D+, 4 NC, 5 -

## Z-ANTENNA
designator E?  (value not drawn)
天线
pins: 1 A

## Z-BATTERY
designator BT?  (value not drawn)
电池
pins: 1 +, 2 -

## Z-BELL
designator U?  (value not drawn)
钟，门铃
pins: 1 A, 2 B

## Z-BNC
designator P?  (value not drawn)
BNC连接器
pins: 1 X, 2 Y

## Z-BUFFER
designator U?  (value not drawn)
缓冲器
pins: 1 A (in), 2 Y (out)

## Z-EARTH
designator E?  (value not drawn)
大地
footprint SF-GND

## Z-FS
designator FS?, comment 24V直流风扇  (value not drawn)
直流风扇
footprint EC2.54-2
footprint EC2.54-2.1
pins: 1 +, 2 -

## Z-FS_S
designator FS?, comment 24V直流风扇  (value not drawn)
直流风扇
footprint EC2.54-2
footprint EC2.54-2.1
pins: 1 +, 2 -

## Z-LAMP
designator DS?
灯
pins: 1, 2

## Z-PAD1
designator TP?  (value not drawn)
焊盘
footprint Test point - top (ICT use)
footprint Test point-bot (ICT use)
pins: 0 TP

## Z-PAD2
designator ACN, comment M-P  (value not drawn)
焊盘
footprint PAN1
footprint PAN1.5
footprint PAN2
pins: 1
2 alternate drawings of the same symbol

## Z-PAD3
designator ?, comment PAD  (value not drawn)
焊盘
footprint PAN1
footprint PAN1.5
footprint PAN2
pins: 1
2 alternate drawings of the same symbol
text: P

## Z-TEST
designator 24VDC  (value not drawn)
测试焊盘
footprint 20AWG-加强
pins: 1 T

## Z-喇叭
designator LS?
喇叭
pins: 1, 2

## Z-晶振
designator Y?, comment CRYSTAL
晶振
pins: 1, 2

## Z-电压源
designator V?
电压源
pins: 1, 2

## Z-配件
designator P, comment 配件  (value not drawn)
footprint M-2-滤波器平面
text: PJ

## 插头
designator TB?, comment ?
AC-插头
footprint DIP126-2P (DG166/2PIN 高正)
footprint DIP126-3P (DG166/2PIN 高正)
pins: 1 L, 2 1

## 散热器
designator M?  (value not drawn)
footprint M-1-18×11 (HK-11)
footprint M-1-23×16 (HA-1)
footprint M-1-24×10 (M)
footprint M-1-30×25 (HB-2)
footprint M-1-19×8 (HD-4)
pins: 1

## 晶振
designator ?
晶振
pins: 1, 2

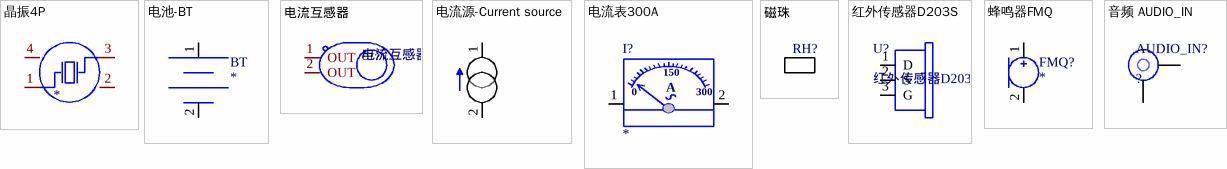
[diagram p17: symbols 晶振4P to 音频 AUDIO_IN]

## 晶振4P
designator ?
晶振
pins: 1 OSC1, 2 GND, 3 OSC2, 4 GND

## 电池-BT
designator BT
电池
pins: 1, 2

## 电流互感器
designator CT?
Manufacturer: FM(复旦微); Name: FM2147-SO-T-G; Symbol: FM2147; Add into BOM: yes; Device: FM2147-SO-T-G; LCSC Part Name: FM2147-SO-T-G; Supplier Part: C194212; Manufacturer Part: FM2147-SO-T-G; Supplier Footprint: SOIC-8; JLCPCB Part Class: Extended Part; Datasheet: https://atta.szlcsc.com/upload/public/pdf/source/20180607/C194212_F0BEF3D37CE6190DF30A565AD6156220.pdf; Supplier: LCSC; Convert to PCB: yes
footprint IC-SOIC-8
pins: 1 OUT, 2 OUT

## 电流源-Current source
designator Current source?, comment ?  (value not drawn)
电流源
pins: 1 0, 2 1

## 电流表300A
designator I?
电流表
pins: 1, 2
text: 150; 0; A; 300

## 磁珠
designator RH?  (value not drawn)  (graphical)
磁珠

## 红外传感器D203S
designator U?
D203S通用双元热释电红外线传感器
footprint TO-5 (D203S通用双元热释电红外线传感器PIR)
pins: 1 D, 2 S, 3 G

## 蜂鸣器FMQ
designator FMQ?
蜂鸣器
pins: 1, 2

## 音频 AUDIO_IN
designator AUDIO_IN?, comment ?
音频
footprint CON2P2.5M
pins: 1 0, 2